# Altium schematic symbol library IPN80R750P7.SchLib: 1 symbol
Pins are listed as number, name and electrical type; pins without a type are passive.

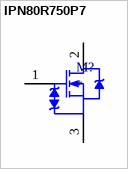
[diagram p0: symbol IPN80R750P7]

## IPN80R750P7
designator M?
MfrPartNo: *
pins: 1 G, 2 D, 3 S